# Altium schematic symbol library SCH封装库.SchLib: 77 symbols
Pins are listed as number, name and electrical type; pins without a type are passive.

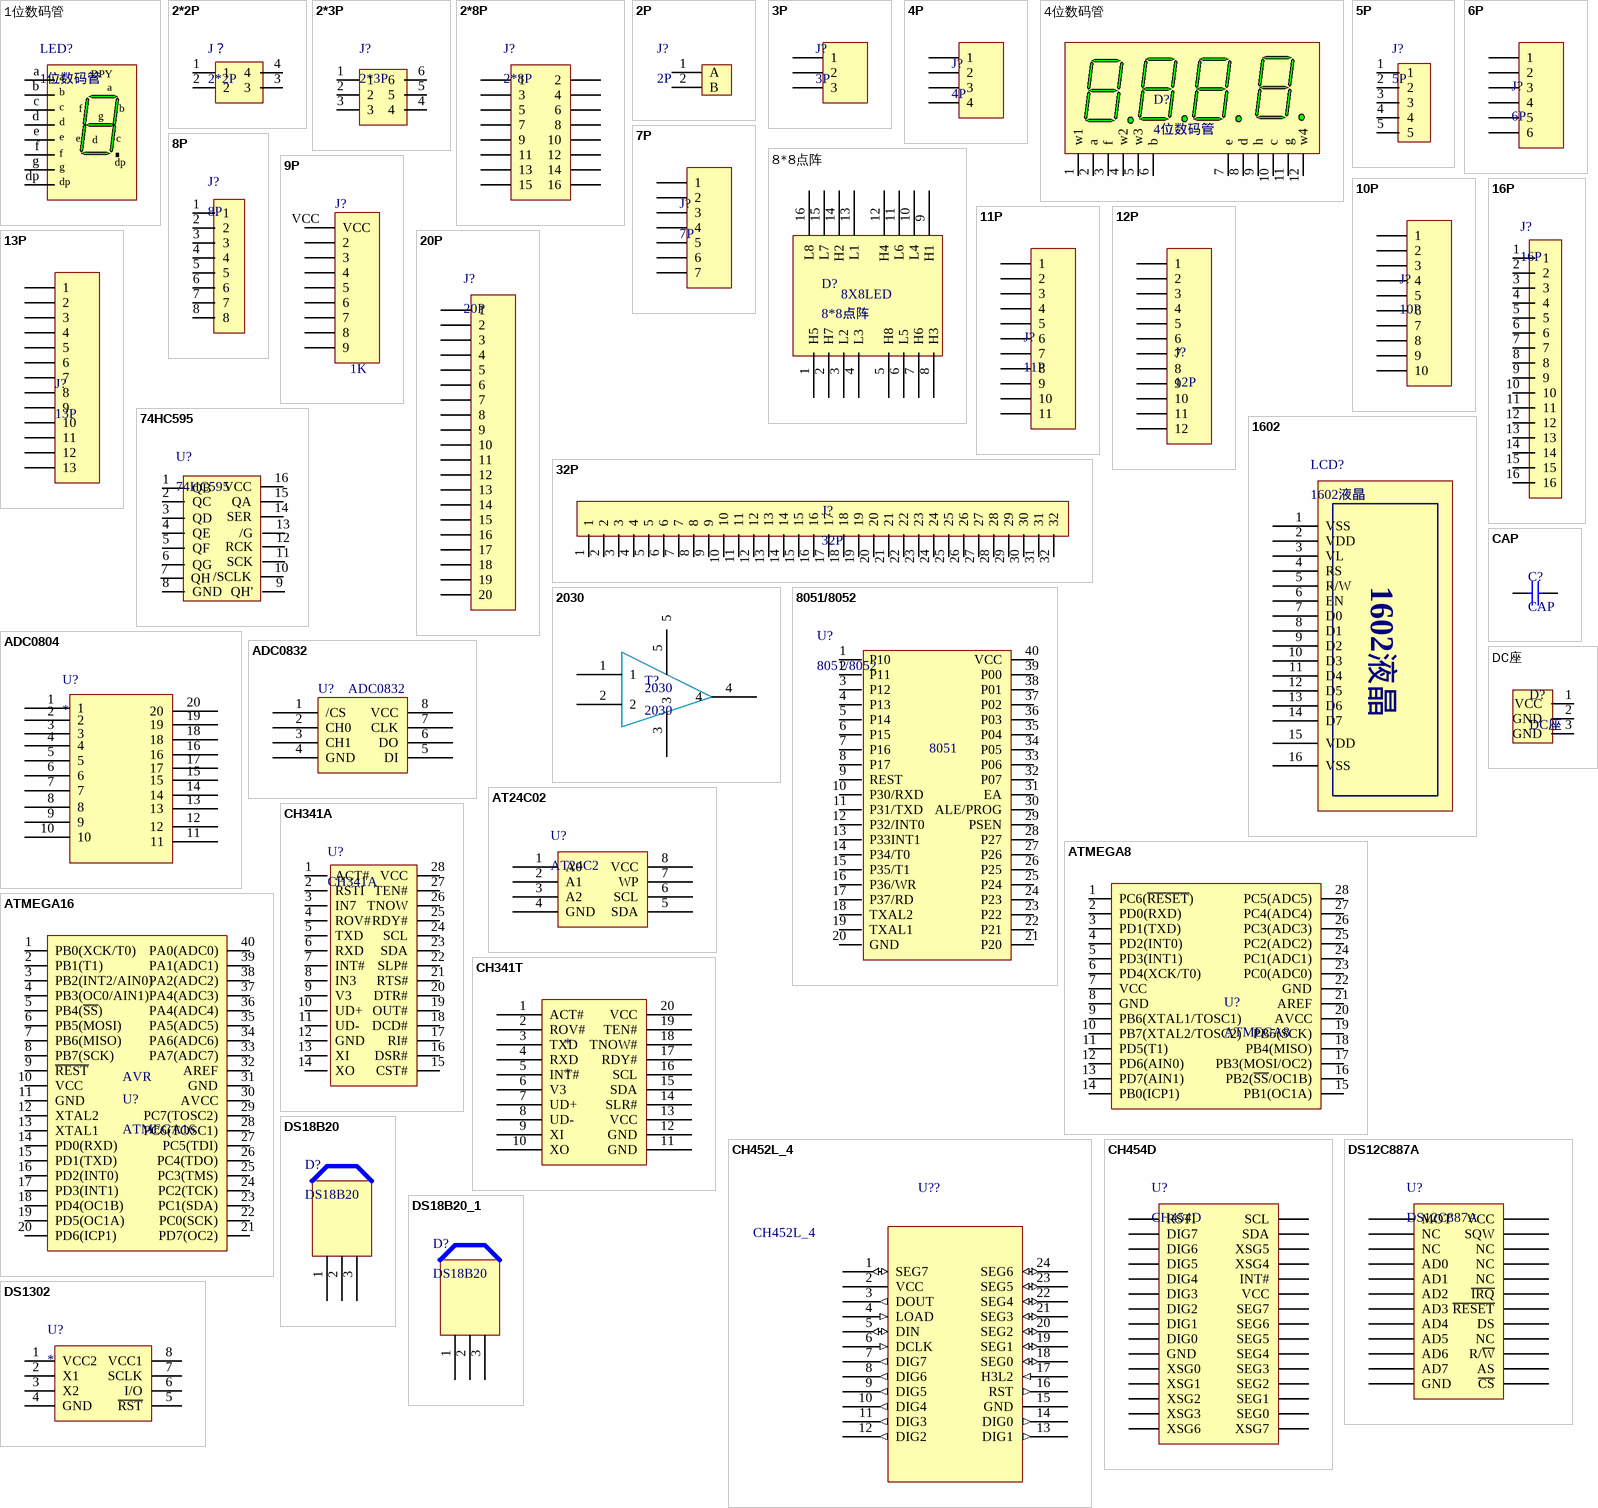
[diagram p0: symbols 1位数码管 to DS1302]

## 1位数码管
designator LED?
footprint 1位数码管
pins: a, b, c, d, dp, e, f, g
text: DPY

## 2*2P
designator J？
footprint 2*2P
pins: 1, 2, 3, 4

## 2*3P
designator J?
footprint 2*3P
pins: 1, 2, 3, 4, 5, 6

## 2*8P
designator J?
footprint 2*8P
pins: 1, 2, 3, 4, 5, 6, 7, 8, 9, 10, 11, 12, 13, 14, 15, 16

## 2P
designator J?
footprint SIP2
pins: 1 A, 2 B

## 3P
designator J?
footprint 3P
pins: 1, 2, 3

## 4P
designator J?
footprint 4P
pins: 1, 2, 3, 4

## 4位数码管
designator D?
footprint 4位数码管
footprint W4
pins: 1 w1, 2 a, 3 f, 4 w2, 5 w3, 6 b, 7 e, 8 d, 9 h, 10 c, 11 g, 12 w4

## 5P
designator J?
footprint 5p
footprint 5P
pins: 1, 2, 3, 4, 5

## 6P
designator J?
footprint 6P
pins: 1, 2, 3, 4, 5, 6

## 7P
designator J?
footprint 7P
pins: 1, 2, 3, 4, 5, 6, 7

## 8*8点阵
designator D?
footprint 8*8点阵（小）
footprint 8*8点阵（大）
pins: 1 H5, 2 H7, 3 L2, 4 L3, 5 H8, 6 L5, 7 H6, 8 H3, 9 H1, 10 L4, 11 L6, 12 H4, 13 L1, 14 H2, 15 L7, 16 L8
text: 8X8LED

## 8P
designator J?
footprint 8p
footprint 8P
pins: 1, 2, 3, 4, 5, 6, 7, 8

## 9P
designator J?  (value not drawn)
footprint 9P
pins: 2, 3, 4, 5, 6, 7, 8, 9, VCC
text: 1K

## 10P
designator J?
footprint 10P
pins: 1, 2, 3, 4, 5, 6, 7, 8, 9, 10

## 11P
designator J?
footprint 11P
pins: 1, 2, 3, 4, 5, 6, 7, 8, 9, 10, 11

## 12P
designator J?
footprint 12P
pins: 1, 2, 3, 4, 5, 6, 7, 8, 9, 10, 11, 12

## 13P
designator J?
footprint 13P
pins: 1, 2, 3, 4, 5, 6, 7, 8, 9, 10, 11, 12, 13

## 16P
designator J?
footprint 16P
pins: 1, 2, 3, 4, 5, 6, 7, 8, 9, 10, 11, 12, 13, 14, 15, 16

## 20P
designator J?
footprint 20P
pins: 1, 2, 3, 4, 5, 6, 7, 8, 9, 10, 11, 12, 13, 14, 15, 16, 17, 18, 19, 20

## 32P
designator J?
footprint 32P
pins: 1, 2, 3, 4, 5, 6, 7, 8, 9, 10, 11, 12, 13, 14, 15, 16, 17, 18, 19, 20, 21, 22, 23, 24, 25, 26, 27, 28, 29, 30, 31, 32

## 74HC595
designator U?
footprint SOP16
footprint 74HC595
pins: 1 QB, 2 QC, 3 QD, 4 QE, 5 QF, 6 QG, 7 QH, 8 GND, 9 QH', 10 /SCLK, 11 SCK, 12 RCK, 13 /G, 14 SER, 15 QA, 16 VCC

## 1602
designator LCD?, comment 1602液晶
footprint LCD1602
footprint LCD1602
pins: 1 VSS, 2 VDD, 3 VL, 4 RS, 5 R/W, 6 EN, 7 D0, 8 D1, 9 D2, 10 D3, 11 D4, 12 D5, 13 D6, 14 D7, 15 VDD, 16 VSS

## 2030
designator T?
footprint 2030
pins: 1, 2, 3, 4, 5

## 8051/8052
designator U?
footprint DIP40
footprint 40P IC
pins: 1 P10, 2 P11, 3 P12, 4 P13, 5 P14, 6 P15, 7 P16, 8 P17, 9 REST, 10 P30/RXD, 11 P31/TXD, 12 P32/INT0, 13 P33INT1, 14 P34/T0, 15 P35/T1, 16 P36/WR, 17 P37/RD, 18 TXAL2, 19 TXAL1, 20 GND, 21 P20, 22 P21, 23 P22, 24 P23, 25 P24, 26 P25, 27 P26, 28 P27, 29 PSEN, 30 ALE/PROG, 31 EA, 32 P07, 33 P06, 34 P05, 35 P04, 36 P03, 37 P02, 38 P01, 39 P00, 40 VCC
text: 8051

## ADC0804
designator U?
footprint 74HC573
pins: 1, 2, 3, 4, 5, 6, 7, 8, 9, 10, 11, 12, 13, 14, 15, 16, 17, 18, 19, 20

## ADC0832
designator U?
footprint DIP8
pins: 1 /CS, 2 CH0, 3 CH1, 4 GND, 5 DI, 6 DO, 7 CLK, 8 VCC

## AT24C02
designator U?, comment AT24C2
footprint DIP8
pins: 1 A0, 2 A1, 3 A2, 4 GND, 5 SDA, 6 SCL, 7 WP, 8 VCC

## ATMEGA8
designator U?
footprint DIP28
pins: 1 PC6(~{RESET}), 2 PD0(RXD), 3 PD1(TXD), 4 PD2(INT0), 5 PD3(INT1), 6 PD4(XCK/T0), 7 VCC, 8 GND, 9 PB6(XTAL1/TOSC1), 10 PB7(XTAL2/TOSC2), 11 PD5(T1), 12 PD6(AIN0), 13 PD7(AIN1), 14 PB0(ICP1), 15 PB1(OC1A), 16 PB2(~{SS}/OC1B), 17 PB3(MOSI/OC2), 18 PB4(MISO), 19 PB5(SCK), 20 AVCC, 21 AREF, 22 GND, 23 PC0(ADC0), 24 PC1(ADC1), 25 PC2(ADC2), 26 PC3(ADC3), 27 PC4(ADC4), 28 PC5(ADC5)

## ATMEGA16
designator U?
footprint DIP40
pins: 1 PB0(XCK/T0), 2 PB1(T1), 3 PB2(INT2/AIN0), 4 PB3(OC0/AIN1), 5 PB4(~{SS}), 6 PB5(MOSI), 7 PB6(MISO), 8 PB7(SCK), 9 ~{REST}, 10 VCC, 11 GND, 12 XTAL2, 13 XTAL1, 14 PD0(RXD), 15 PD1(TXD), 16 PD2(INT0), 17 PD3(INT1), 18 PD4(OC1B), 19 PD5(OC1A), 20 PD6(ICP1), 21 PD7(OC2), 22 PC0(SCK), 23 PC1(SDA), 24 PC2(TCK), 25 PC3(TMS), 26 PC4(TDO), 27 PC5(TDI), 28 PC6(TOSC1), 29 PC7(TOSC2), 30 AVCC, 31 GND, 32 AREF, 33 PA7(ADC7), 34 PA6(ADC6), 35 PA5(ADC5), 36 PA4(ADC4), 37 PA4(ADC3), 38 PA2(ADC2), 39 PA1(ADC1), 40 PA0(ADC0)
text: AVR

## CAP
designator C?
footprint CAP
pins: 1, 2

## CH341A
designator U?
footprint CH341
pins: 1 ACT#, 2 RSTI, 3 IN7, 4 ROV#, 5 TXD, 6 RXD, 7 INT#, 8 IN3, 9 V3, 10 UD+, 11 UD-, 12 GND, 13 XI, 14 XO, 15 CST#, 16 DSR#, 17 RI#, 18 DCD#, 19 OUT#, 20 DTR#, 21 RTS#, 22 SLP#, 23 SDA, 24 SCL, 25 RDY#, 26 TNOW, 27 TEN#, 28 VCC

## CH341T
designator *
footprint CH341T
pins: 1 ACT# (power), 2 ROV# (power), 3 TXD (power), 4 RXD (power), 5 INT# (power), 6 V3 (power), 7 UD+ (power), 8 UD- (power), 9 XI (power), 10 XO (power), 11 GND (power), 12 GND (power), 13 VCC (power), 14 SLR# (power), 15 SDA (power), 16 SCL (power), 17 RDY# (power), 18 TNOW# (power), 19 TEN# (power), 20 VCC (power)

## CH452L_4
designator U??
8 Digits / 64 LEDs Drive & 8x8 Keyboard, 4 Wire Interface, SPI
footprint CH341
pins: 1 SEG7 (io), 2 VCC (power), 3 DOUT (out), 4 LOAD (in), 5 DIN (io), 6 DCLK (in), 7 DIG7 (out), 8 DIG6 (out), 9 DIG5 (out), 10 DIG4 (out), 11 DIG3 (out), 12 DIG2 (out), 13 DIG1 (out), 14 DIG0 (out), 15 GND (power), 16 RST (out), 17 H3L2 (in), 18 SEG0 (io), 19 SEG1 (io), 20 SEG2 (io), 21 SEG3 (io), 22 SEG4 (io), 23 SEG5 (io), 24 SEG6 (io)

## CH454D
designator U?
footprint CH454D
pins: 1 RSTI, 2 DIG7, 3 DIG6, 4 DIG5, 5 DIG4, 6 DIG3, 7 DIG2, 8 DIG1, 9 DIG0, 10 GND (power), 11 XSG0, 12 XSG1, 13 XSG2, 14 XSG3, 15 XSG6, 16 XSG7, 17 SEG0, 18 SEG1, 19 SEG2, 20 SEG3, 21 SEG4, 22 SEG5, 23 SEG6, 24 SEG7, 25 VCC, 26 INT#, 27 XSG4, 28 XSG5, 29 SDA, 30 SCL

## DC座
designator D?
footprint DC座
pins: 1 VCC, 2 GND, 3 GND

## DS12C887A
designator U?
footprint DS12C887
pins: 1 MOT, 2 NC, 3 NC, 4 AD0, 5 AD1, 6 AD2, 7 AD3, 8 AD4, 9 AD5, 10 AD6, 11 AD7, 12 GND (power), 13 ~{CS}, 14 AS, 15 R/~{W}, 16 NC, 17 DS, 18 ~{RESET}, 19 ~{IRQ}, 20 NC, 21 NC, 22 NC, 23 SQW, 24 VCC (power)

## DS18B20
designator D?
footprint 三极管
footprint 3P
pins: 1, 2, 3

## DS18B20_1
designator D?, comment DS18B20
footprint 三极管
footprint 3P
pins: 1, 2, 3

## DS1302
designator U?
footprint DIP8
pins: 1 VCC2 (power), 2 X1, 3 X2, 4 GND (power), 5 ~{RST} (power), 6 I/O (power), 7 SCLK (power), 8 VCC1 (power)

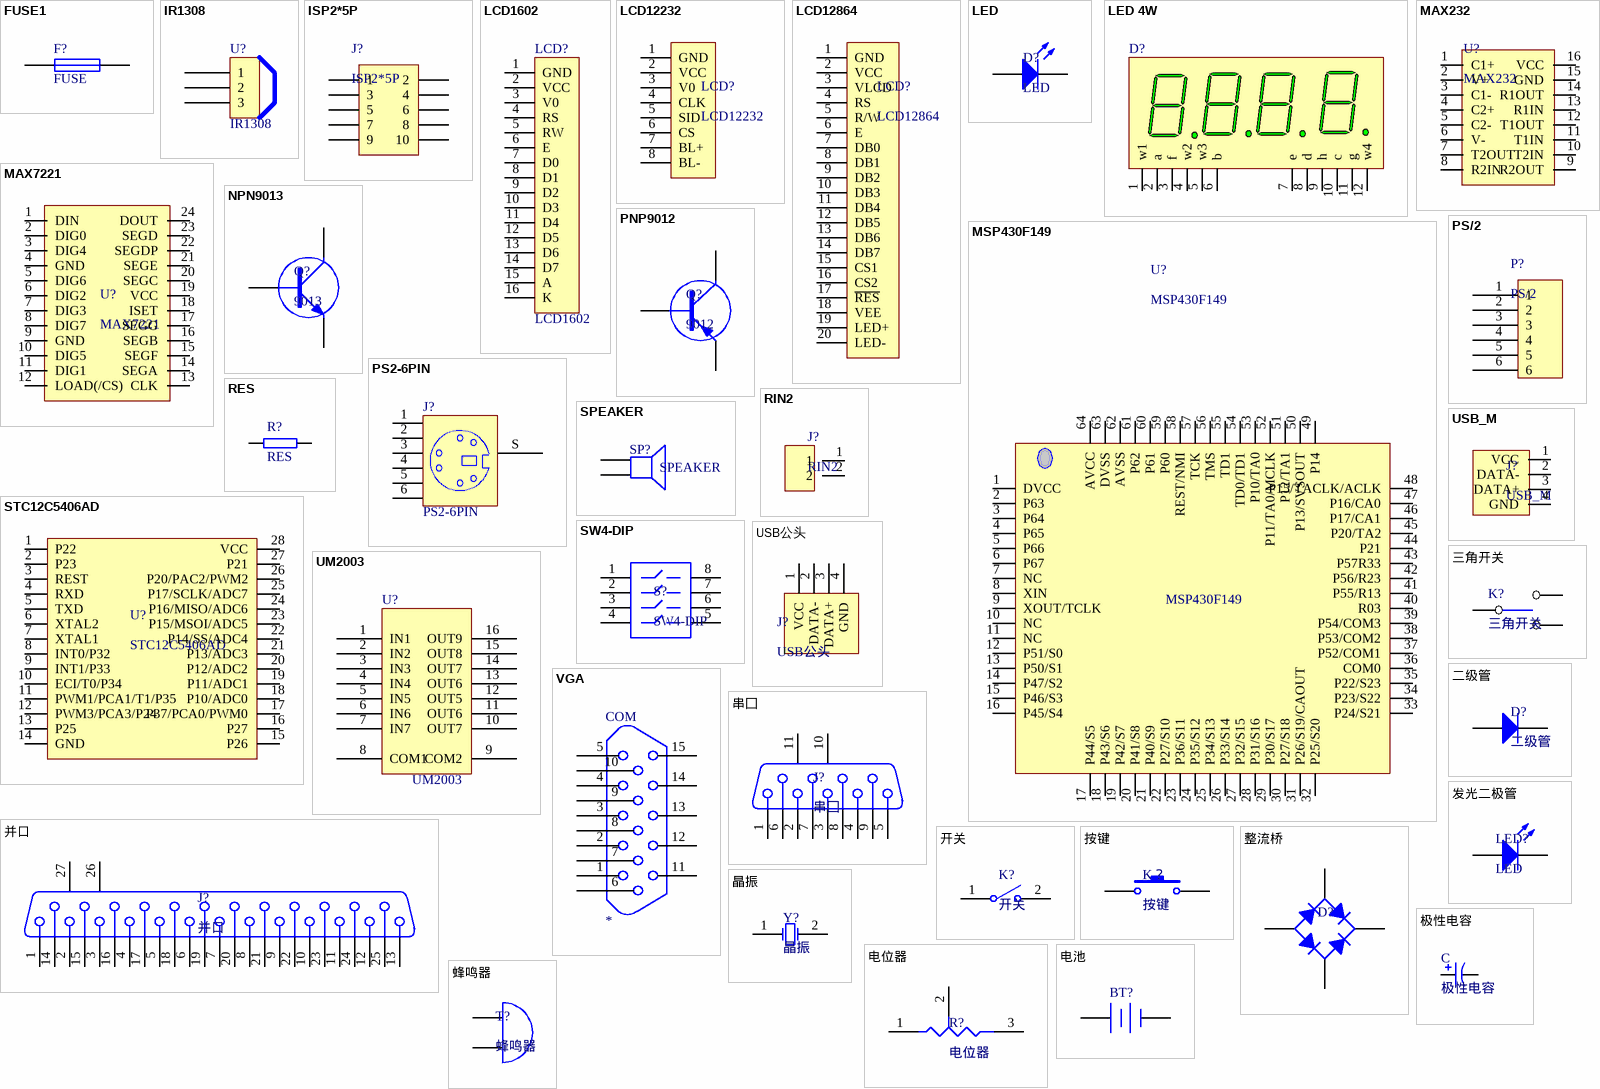
[diagram p1: symbols FUSE1 to 蜂鸣器]

## FUSE1
designator F?, comment FUSE
保险丝
footprint AXIAL0.5
pins: 1, 2

## IR1308
designator U?
footprint 3P
pins: 1, 2, 3

## ISP2*5P
designator J?
footprint 2*5P
pins: 1, 2, 3, 4, 5, 6, 7, 8, 9, 10

## LCD1602
designator LCD?
footprint LCD1602
pins: 1 GND (power), 2 VCC (power), 3 V0 (power), 4 RS (power), 5 RW (power), 6 E (power), 7 D0 (power), 8 D1 (power), 9 D2 (power), 10 D3 (power), 11 D4 (power), 12 D5 (power), 13 D6 (power), 14 D7 (power), 15 A (power), 16 K (power)

## LCD12232
designator LCD?
footprint LCD12232
pins: 1 GND (power), 2 VCC (power), 3 V0 (power), 4 CLK (power), 5 SID (power), 6 CS (power), 7 BL+ (power), 8 BL- (power)

## LCD12864
designator LCD?
footprint LCD12864
pins: 1 GND (power), 2 VCC (power), 3 VLCD (power), 4 RS (power), 5 R/W (power), 6 E (power), 7 DB0 (power), 8 DB1 (power), 9 DB2 (power), 10 DB3 (power), 11 DB4 (power), 12 DB5 (power), 13 DB6 (power), 14 DB7 (power), 15 CS1 (power), 16 CS2 (power), 17 ~{RES} (power), 18 VEE (power), 19 LED+ (power), 20 LED- (power)

## LED
designator D?
footprint LED(小)
footprint LED （大）
pins: 1, 2

## LED 4W
designator D?  (value not drawn)
footprint 4位数码管_( 大)
footprint 四位小数码管
pins: 1 w1, 2 a, 3 f, 4 w2, 5 w3, 6 b, 7 e, 8 d, 9 h, 10 c, 11 g, 12 w4

## MAX232
designator U?
footprint MAX232
pins: 1 C1+, 2 V+, 3 C1-, 4 C2+, 5 C2-, 6 V-, 7 T2OUT, 8 R2IN, 9 R2OUT, 10 T2IN, 11 T1IN, 12 T1OUT, 13 R1IN, 14 R1OUT, 15 GND, 16 VCC

## MAX7221
designator U?
footprint MAX7221
pins: 1 DIN, 2 DIG0, 3 DIG4, 4 GND, 5 DIG6, 6 DIG2, 7 DIG3, 8 DIG7, 9 GND, 10 DIG5, 11 DIG1, 12 LOAD(/CS), 13 CLK, 14 SEGA, 15 SEGF, 16 SEGB, 17 SEGG, 18 ISET, 19 VCC, 20 SEGC, 21 SEGE, 22 SEGDP, 23 SEGD, 24 DOUT

## MSP430F149
designator U?
footprint MSP430F149
pins: 1 DVCC, 2 P63, 3 P64, 4 P65, 5 P66, 6 P67, 7 NC, 8 XIN, 9 XOUT/TCLK, 10 NC, 11 NC, 12 P51/S0, 13 P50/S1, 14 P47/S2, 15 P46/S3, 16 P45/S4, 17 P44/S5, 18 P43/S6, 19 P42/S7, 20 P41/S8, 21 P40/S9, 22 P27/S10, 23 P36/S11, 24 P35/S12, 25 P34/S13, 26 P33/S14, 27 P32/S15, 28 P31/S16, 29 P30/S17, 30 P27/S18, 31 P26/S19/CAOUT, 32 P25/S20, 33 P24/S21, 34 P23/S22, 35 P22/S23, 36 COM0, 37 P52/COM1, 38 P53/COM2, 39 P54/COM3, 40 R03, 41 P55/R13, 42 P56/R23, 43 P57R33, 44 P21, 45 P20/TA2, 46 P17/CA1, 47 P16/CA0, 48 P15/TACLK/ACLK, 49 P14, 50 P13/SVSOUT, 51 P12/TA1, 52 P11/TA0/MCLK, 53 P10/TA0, 54 TD0/TD1, 55 TD1, 56 TMS, 57 TCK, 58 REST/NMI, 59 P60, 60 P61, 61 P62, 62 AVSS, 63 DVSS, 64 AVCC

## NPN9013
designator Q?, comment 9013
footprint 901#
footprint 901# (大)
pins: 1 E, 2 B, 3 C

## PNP9012
designator Q?, comment 9012
footprint 901#
footprint 901# (大)
pins: 1 E, 2 B, 3 C

## PS2-6PIN
designator J?
6 Pin Through Hole PS2 Socket (Kycon P/N); Published: 17-Dec-2003; Publisher: Altium Limited; ComponentLink1Description: Manufacturer Link; ComponentLink1URL: http://www.oupiin.com/prodindx.html#Headers
footprint PS2-6PIN (PS2 Socket, 6 Pin, Through Hole)
pins: 1, 2, 3, 4, 5, 6, S

## PS/2
designator P?
footprint PS/2
pins: 1, 2, 3, 4, 5, 6

## RES
designator R?
footprint AXIAL0.3
footprint AXIAL0.4
footprint 0805
pins: 1, 2

## RIN2
designator J?
footprint RIN
pins: 1, 2

## SPEAKER
designator SP?
footprint SIP2
pins: 1, 2

## STC12C5406AD
designator U?
footprint 28P IC
pins: 1 P22, 2 P23, 3 REST, 4 RXD, 5 TXD, 6 XTAL2, 7 XTAL1, 8 INT0/P32, 9 INT1/P33, 10 ECI/T0/P34, 11 PWM1/PCA1/T1/P35, 12 PWM3/PCA3/P24, 13 P25, 14 GND, 15 P26, 16 P27, 17 P37/PCA0/PWM0, 18 P10/ADC0, 19 P11/ADC1, 20 P12/ADC2, 21 P13/ADC3, 22 P14/SS/ADC4, 23 P15/MSOI/ADC5, 24 P16/MISO/ADC6, 25 P17/SCLK/ADC7, 26 P20/PAC2/PWM2, 27 P21, 28 VCC

## SW4-DIP
designator S?
footprint DIP8
pins: 1, 2, 3, 4, 5, 6, 7, 8

## UM2003
designator U?
footprint DIP16
pins: 1 IN1, 2 IN2, 3 IN3, 4 IN4, 5 IN5, 6 IN6, 7 IN7, 8 COM1, 9 COM2, 10 OUT7, 11 OUT6, 12 OUT5, 13 OUT6, 14 OUT7, 15 OUT8, 16 OUT9

## USB_M
designator J?
footprint USB
pins: 1 VCC, 2 DATA-, 3 DATA+, 4 GND

## USB公头
designator J?
footprint USB公头
pins: 1 VCC (power), 2 DATA- (power), 3 DATA+ (power), 4 GND (power)

## VGA
designator COM
VGA 15
footprint VGA
pins: 1 RED, 2 GREEN, 3 BLUE, 4 ID2, 5 HGND, 6 RGND, 7 GGND, 8 BGND, 9 NC, 10 VGND, 11 ID0, 12 ID1, 13 Hsync, 14 Vsync, 15 NC

## 三角开关
designator K?
footprint 开关
pins: 1, 2, 3

## 串囗
designator J?
footprint 串囗
pins: 1, 2, 3, 4, 5, 6, 7, 8, 9, 10 MH1, 11 MH2

## 二级管
designator D?
footprint 二极管
pins: 1 A, 2 K

## 发光二极管
designator LED?, comment LED
footprint LED （大）
footprint LED（小）
pins: 1, 2

## 并口
designator J?
footprint 并口
pins: 1, 2, 3, 4, 5, 6, 7, 8, 9, 10, 11, 12, 13, 14, 15, 16, 17, 18, 19, 20, 21, 22, 23, 24, 25, 26 MH1, 27 MH2

## 开关
designator K?
footprint 开关
pins: 1 COMMON, 2 NO

## 按键
designator K？
footprint 按键（小）
footprint 按键
pins: 1, 2

## 整流桥
designator D?  (value not drawn)
footprint 整流桥
pins: 1 A, 2 C, 3 K, 4 C

## 晶振
designator Y?
footprint 晶振
footprint SIP2
pins: 1 OSC1, 2 OSC2

## 极性电容
designator C
footprint 极性电容
pins: 1, 2

## 电位器
designator R?
footprint 电位器
pins: 1 A, 2 TAP, 3 B

## 电池
designator BT?  (value not drawn)
footprint 电池座
pins: 1 +, 2 -

## 蜂鸣器
designator T?
footprint 蜂鸣器
pins: 1, 2 1